# Altium schematic symbol library UWRT dd_current sense.SchLib: 4 symbols
Pins are listed as number, name and electrical type; pins without a type are passive.

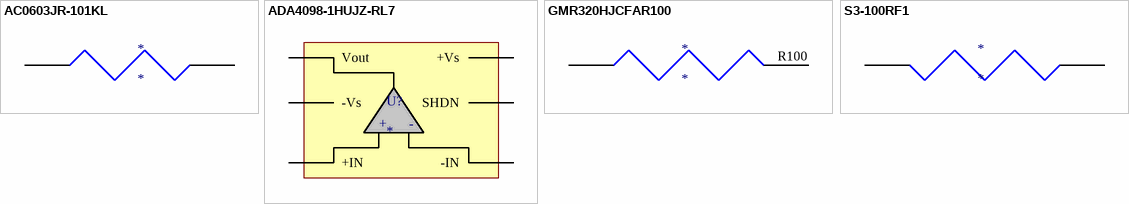
[diagram p0: symbols AC0603JR-101KL to S3-100RF1]

## AC0603JR-101KL
designator *
Chip Resistor Automotive Grade Thick Film 0603 1kOhm 5% Paper T/R; Manufacturer: Yageo; Manufacturer Part Number: AC0603JR-101KL; Supplier 1: Digi-Key; RoHS: Yes; Category: Chip SMD Resistors; Stock 1: 56585; Pricing 1: 1=0.10000, 10=0.02100, 100=0.00850, 1000=0.00383, 2500=0.00332, 5000=0.00274 (USD); RoHS Compliant: Yes; Supplier Part Number 1: 13-AC0603JR-101KLCT-ND
pins: 38, 39

## ADA4098-1HUJZ-RL7
designator U?
The ADA4098-1 is a robust, precision, rail-to-rail input and output operational amplifier (op amp) with inputs that...; Manufacturer: Analog Devices; Manufacturer Part Number: ADA4098-1HUJZ-RL7; Supplier 1: Arrow Electronics; RoHS: Yes; Category: Amplifiers - Op Amps, Buffer, Instrumentation; Stock 1: 2096; Pricing 1: 1=10.65940, 10=9.61630, 25=9.15170, 50=8.18570, 100=7.84070, 250=7.24620, 500=6.85290, 1000=6.78500 (USD); Supplier Part Number 1: ADA4098-1HUJZ-RL7
pins: 40 Vout, 41 -Vs, 42 +IN, 43 -IN, 44 SHDN, 45 +Vs
text: +; -

## GMR320HJCFAR100
designator *
Resistor Low Ohmic Chip 2817 100mOhm 1% 10W ±25ppm/°C SMD Embossed T/R; Manufacturer: Rohm; Manufacturer Part Number: GMR320HJCFAR100; Supplier 1: Rs; RoHS: No; Category: Chip SMD Resistors; Stock 1: 1990; Pricing 1: 50=1.56600, 100=1.37200, 250=1.17800, 1000=0.85000 (GBP); Supplier Part Number 1: 2374343P
pins: ?1, R100

## S3-100RF1
designator *
Res SMD 100 Ohm 1% 3W 6327; Manufacturer: Riedon; Manufacturer Part Number: S3-100RF1; Resistance: 100R; Temperature Coefficient: 20ppm/°C; Supplier 1: Digi-Key; RoHS: Yes; Category: Chip SMD Resistors; Stock 1: 440; Pricing 1: 1=2.06000, 10=1.82500, 25=1.69200, 50=1.59260, 100=1.39350, 250=1.19444 (USD); Min Operating Temperature: -55°C; Max Operating Temperature: 275°C; Package Quantity: 1; Packaging: Tape and Reel; Tolerance: 1%; Resistor Type: Wirewound; Number of Terminations: 2; Max Power Dissipation: 3W; Features: Moisture Resistant; Length: 0.626inch; Width: 0.272inch; Height: 0.268inch; ComponentLink1URL: https://datasheet.ciiva.com/18599/ssl-18599791.pdf?src-supplier=Digi-Key; ComponentLink1Description: https://datasheet.ciiva.com/18599/ssl-18599791.pdf?src-supplier=Digi-Key; ComponentLink2URL: https://datasheet.ciiva.com/18599/ssl-18599790.pdf?src-supplier=Digi-Key; ComponentLink2Description: https://datasheet.ciiva.com/18599/ssl-18599790.pdf?src-supplier=Digi-Key; Supplier Part Number 1: 696-1220-1-ND
pins: 36, 37